# Altium schematic symbol library Sch_Analog_Devices.SchLib: 4 symbols
Pins are listed as number, name and electrical type; pins without a type are passive.

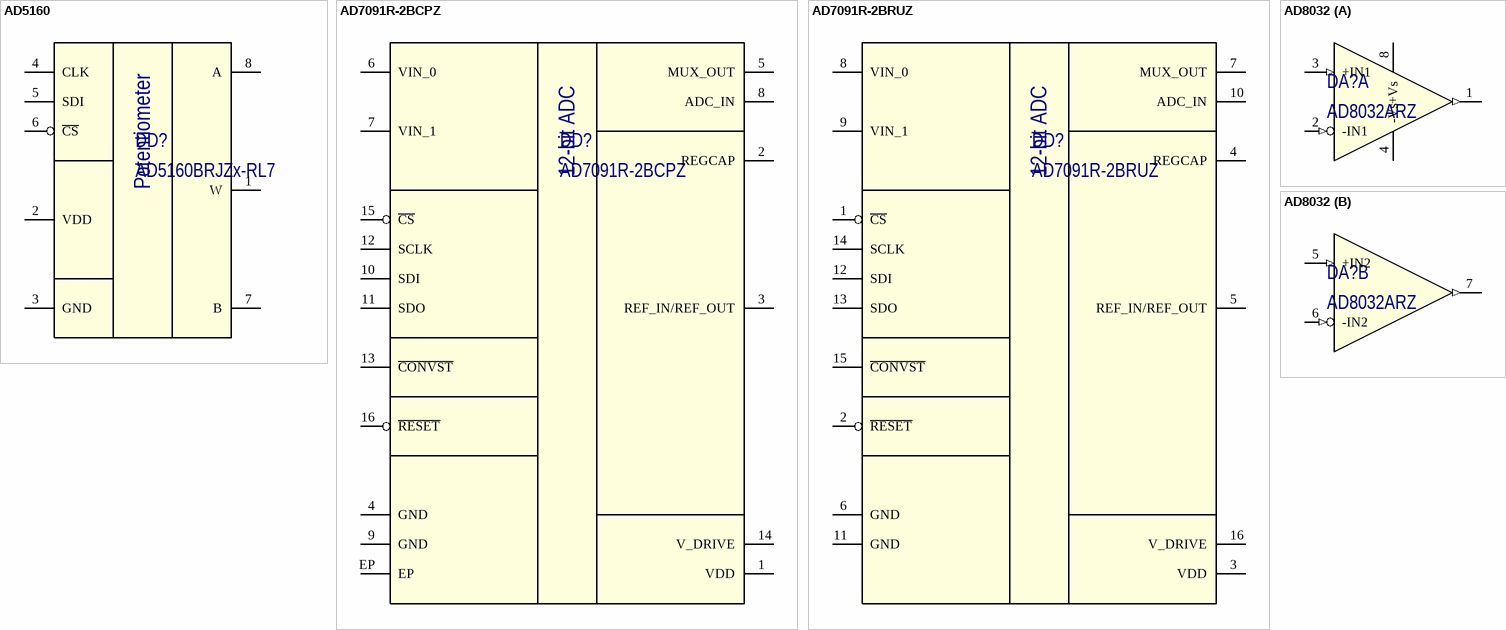
[diagram p0: symbols AD5160 to AD8032]

## AD5160
designator DD?, comment AD5160BRJZx-RL7
256-Position SPI-Compatible Digital Potentiometer; Manufacturer: Analog Devices; Part Number: AD5160BRJZx-RL7
footprint SOT23-8 (SOT23-8, 8-Leads, Body 2,90x1,63mm, Pitch 0,65mm, IPC Medium Density)
pins: 1 W, 2 VDD (power), 3 GND (power), 4 CLK, 5 SDI, 6 ~{CS}, 7 B, 8 A
text: Potentiometer

## AD7091R-2BCPZ
designator DD?
2-Channel, 1 MSPS, Ultralow Power, 12-Bit SAR ADC; Manufacturer: Analog Devices; Part Number: AD7091R-2BCPZ; Package: QFN-16
footprint LFCSP_WQ (CP-16-17) (QFN, 16-Leads, Body 4,00x4,00mm, Pitch 0,65mm, Thermal Pad 2,60x2,60mm, IPC Medium Density)
pins: 1 VDD (power), 2 REGCAP, 3 REF_IN/REF_OUT, 4 GND (power), 5 MUX_OUT, 6 VIN_0, 7 VIN_1, 8 ADC_IN, 9 GND (power), 10 SDI, 11 SDO, 12 SCLK, 13 ~{CONVST}, 14 V_DRIVE, 15 ~{CS}, 16 ~{RESET}, EP (power)
text: 12-bit ADC

## AD7091R-2BRUZ
designator DD?
2-Channel, 1 MSPS, Ultralow Power, 12-Bit SAR ADC; Manufacturer: Analog Devices; Part Number: AD7091R-2BRUZ; Package: TSSOP-16
footprint TSSOP-16 (TSOP, 20-Leads, Body 6.50x4.40mm, Pitch 0.65mm, IPC Medium Density)
pins: 1 ~{CS}, 2 ~{RESET}, 3 VDD (power), 4 REGCAP, 5 REF_IN/REF_OUT, 6 GND (power), 7 MUX_OUT, 8 VIN_0, 9 VIN_1, 10 ADC_IN, 11 GND (power), 12 SDI, 13 SDO, 14 SCLK, 15 ~{CONVST}, 16 V_DRIVE
text: 12-bit ADC

## AD8032
designator DA?, comment AD8032ARZ
Rail-to-Rail I/O Amplifiers, 2.7 V, 800 μA, 80 MHz; Manufacturer: Analog Devices; Part Number: AD8032ARZ
footprint SOIC-8 (SOIC-8 package)
part A pins: 1 OUT1 (out), 2 -IN1 (in), 3 +IN1 (in), 4 -Vs (power), 8 +Vs (power)
part B pins: 5 +IN2 (in), 6 -IN2 (in), 7 OUT2 (out)